# EAGLE library part FE1.1S (library Misaka-IC)
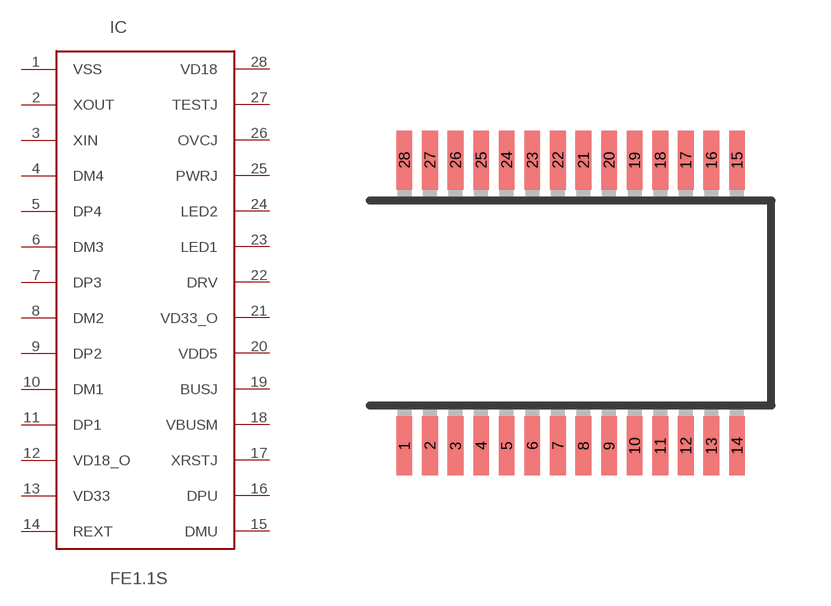
[diagram p21: symbol with the pads of SSOP28; footprint SSOP28]

Designator prefix IC

## FE1.1S  [SSOP28]
1  VSS
2  XOUT
3  XIN
4  DM4
5  DP4
6  DM3
7  DP3
8  DM2
9  DP2
10  DM1
11  DP1
12  VD18_O
13  VD33
14  REXT
15  DMU
16  DPU
17  XRSTJ
18  VBUSM
19  BUSJ
20  VDD5
21  VD33_O
22  DRV
23  LED1
24  LED2
25  PWRJ
26  OVCJ
27  TESTJ
28  VD18

## Footprint SSOP28 (pad centres in mm)
Shrink Small Outline Package package type SS
smd 0.4 x 1.5: 1 -4.225,-3.625; 2 -3.575,-3.625; 3 -2.925,-3.625; 4 -2.275,-3.625; 5 -1.625,-3.625; 6 -0.975,-3.625; 7 -0.325,-3.625; 8 0.325,-3.625; 9 0.975,-3.625; 10 1.625,-3.625; 11 2.275,-3.625; 12 2.925,-3.625; 13 3.575,-3.625; 14 4.225,-3.625; 15 4.225,3.625; 16 3.575,3.625; 17 2.925,3.625; 18 2.275,3.625; 19 1.625,3.625; 20 0.975,3.625; 21 0.325,3.625; 22 -0.325,3.625; 23 -0.975,3.625; 24 -1.625,3.625; 25 -2.275,3.625; 26 -2.925,3.625; 27 -3.575,3.625; 28 -4.225,3.625